# EAGLE library part MAX481CSA (library maxim)
RS485 TRANSEIVER
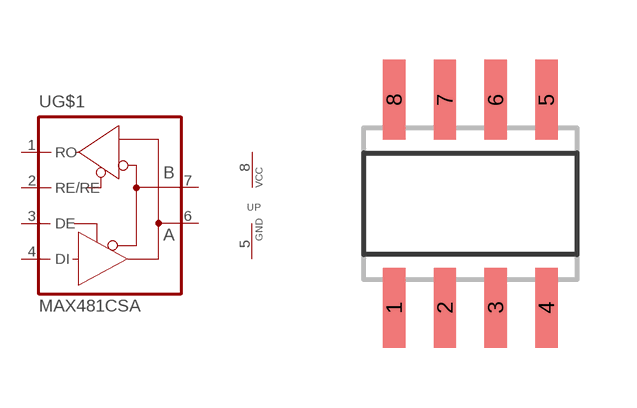
[diagram p343: symbol with the pads of SO08; footprint SO08]

Designator prefix U; gates G$1=MAX481 P=VCC-GND

## MAX481CSA (P1I: o)  [SO08]
1  G$1:RO  out
2  G$1:RE/RE  in
3  G$1:DE  in
4  G$1:DI  in
5  P:GND  pwr
6  G$1:A  pas
7  G$1:B  pas
8  P:VCC  pwr

## Footprint SO08 (pad centres in mm)
SMALL OUTLINE INTEGRATED CIRCUIT body 3.9 mm/JEDEC MS-012AA
smd 0.56 x 2: 1 -1.905,-2.6; 2 -0.635,-2.6; 3 0.635,-2.6; 4 1.905,-2.6; 5 1.905,2.6; 6 0.635,2.6; 7 -0.635,2.6; 8 -1.905,2.6